# EAGLE library part TS5A3359DCU (library DAQ_24bit_Hardware)
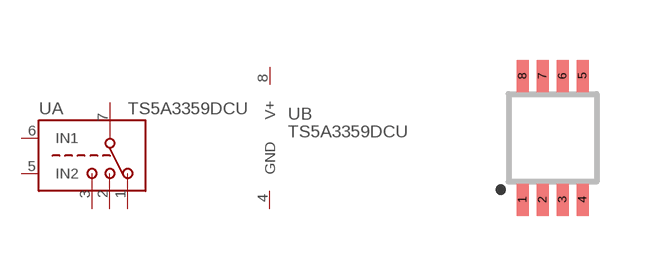
[diagram p3: symbol with the pads of DCU; footprint DCU]

Designator prefix U; gates A=TS5A3359DCU B=V+_GND

## TS5A3359DCU  [DCU]
1  A:NO0
2  A:NO1
3  A:NO2
4  B:GND  pwr
5  A:IN2
6  A:IN1
7  A:COM
8  B:V+  pwr

## Footprint DCU (pad centres in mm)
smd 0.3 x 0.8: 1 -0.75,-1.55; 2 -0.25,-1.55; 3 0.25,-1.55; 4 0.75,-1.55; 5 0.75,1.55; 6 0.25,1.55; 7 -0.25,1.55; 8 -0.75,1.55